# Altium schematic symbol library SCH - MCU - NUVOTON - NUVOTON M032EC1AE.SchLib: 1 symbol
Pins are listed as number, name and electrical type; pins without a type are passive.

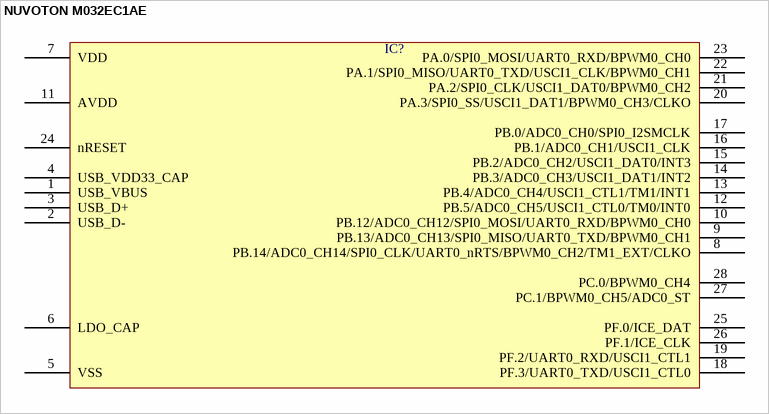
[diagram p0: symbol NUVOTON M032EC1AE]

## NUVOTON M032EC1AE
designator IC?  (value not drawn)
pins: 1 USB_VBUS, 2 USB_D-, 3 USB_D+, 4 USB_VDD33_CAP, 5 VSS, 6 LDO_CAP, 7 VDD, 8 PB.14/ADC0_CH14/SPI0_CLK/UART0_nRTS/BPWM0_CH2/TM1_EXT/CLKO, 9 PB.13/ADC0_CH13/SPI0_MISO/UART0_TXD/BPWM0_CH1, 10 PB.12/ADC0_CH12/SPI0_MOSI/UART0_RXD/BPWM0_CH0, 11 AVDD, 12 PB.5/ADC0_CH5/USCI1_CTL0/TM0/INT0, 13 PB.4/ADC0_CH4/USCI1_CTL1/TM1/INT1, 14 PB.3/ADC0_CH3/USCI1_DAT1/INT2, 15 PB.2/ADC0_CH2/USCI1_DAT0/INT3, 16 PB.1/ADC0_CH1/USCI1_CLK, 17 PB.0/ADC0_CH0/SPI0_I2SMCLK, 18 PF.3/UART0_TXD/USCI1_CTL0, 19 PF.2/UART0_RXD/USCI1_CTL1, 20 PA.3/SPI0_SS/USCI1_DAT1/BPWM0_CH3/CLKO, 21 PA.2/SPI0_CLK/USCI1_DAT0/BPWM0_CH2, 22 PA.1/SPI0_MISO/UART0_TXD/USCI1_CLK/BPWM0_CH1, 23 PA.0/SPI0_MOSI/UART0_RXD/BPWM0_CH0, 24 nRESET, 25 PF.0/ICE_DAT, 26 PF.1/ICE_CLK, 27 PC.1/BPWM0_CH5/ADC0_ST, 28 PC.0/BPWM0_CH4